# Altium footprint library AIRZAI_LED_SENSE_FLEX_REVA.PcbLib: 7 footprints
Each footprint in its own frame and in the unit in brackets; x right, y up, seen from the top. Pads: shape width x height; smd on the part's side, far side on the other; paste and mask are expansions set on the pad; w line width, h text height; cw(c..) or ccw(c..) is an arc to the next point about the centre after c.
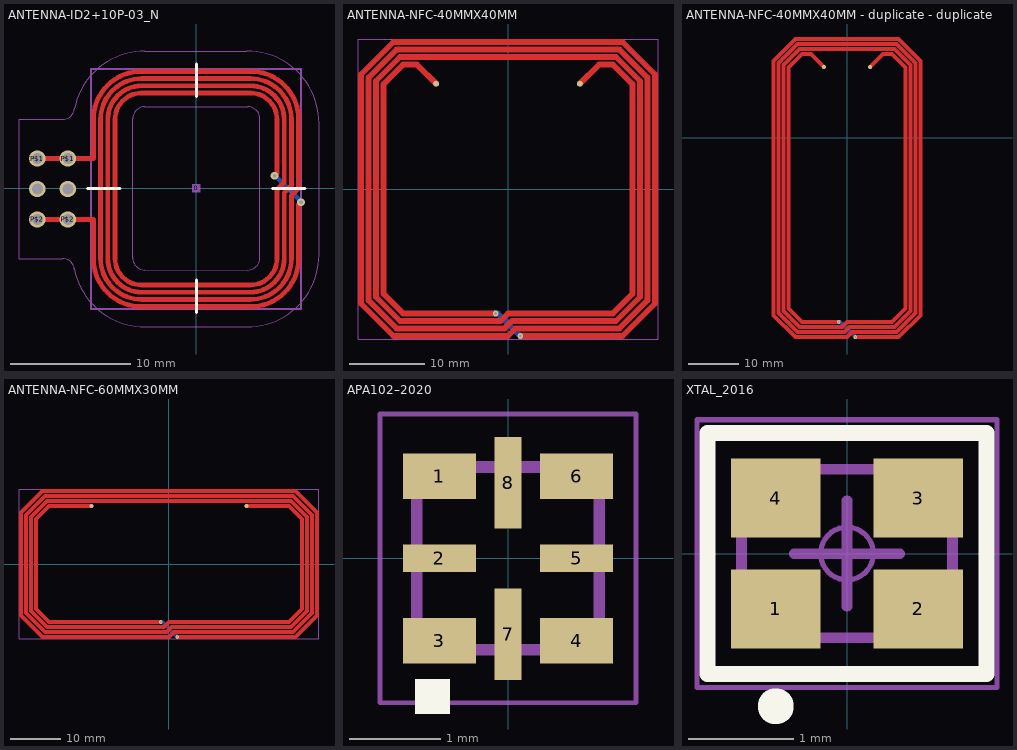
[diagram p0: the footprints below, top view; thin cyan lines are the x and y axes]

## ANTENNA-ID2+10P-03_N [mil] "ANTENNA-ID2+10P-01"
pads (7):
  rect 27.56x27.56 on Mech2: 0(0,0)
  round 54 hole 36: CON-B(-521.57,-1.97) CON-B1(-421.57,-1.97) P$1(-521.57,98.03) P$1(-421.57,98.03) P$2(-521.57,-101.97) P$2(-421.57,-101.97)
via 256.89,41.34 diameter 25.59 hole 11.81
via 343.5,-45.28 diameter 25.59 hole 11.81
Top Layer:
  lines w15.75: -521.57,-101.97 -337.6,-101.97 -337.6,-230.31 ccw(c-180.12,-230.31) -180.12,-387.8 178.15,-387.8 ccw(c178.15,-230.31) 335.63,-230.31 335.63,-53.15 344.49,-44.29 ; -521.57,98.03 -337.6,98.03 -337.6,226.38 cw(c-180.12,226.38) -180.12,383.86 178.15,383.86 cw(c178.15,226.38) 335.63,226.38 335.63,0 312.01,-23.62 312.01,-230.31 cw(c178.15,-230.31) 178.15,-364.17 -180.12,-364.17 cw(c-180.12,-230.31) -313.98,-230.31 -313.98,-1.97 -313.98,226.38 cw(c-180.12,226.38) -180.12,360.24 178.15,360.24 cw(c178.15,226.38) 312.01,226.38 312.01,9.84 288.39,-13.78 288.39,-230.31 cw(c178.15,-230.31) 178.15,-340.55 -180.12,-340.55 cw(c-180.12,-230.31) -290.35,-230.31 -290.35,-13.78 -290.35,226.38 cw(c-180.12,226.38) -180.12,336.61 178.15,336.61 cw(c178.15,226.38) 288.39,226.38 288.39,19.68 264.76,-3.94 264.76,-230.31 cw(c178.15,-230.31) 178.15,-316.93 -180.12,-316.93 cw(c-180.12,-230.31) -266.73,-230.31 -266.73,-13.78 -266.73,226.38 cw(c-180.12,226.38) -180.12,312.99 178.15,312.99 cw(c178.15,226.38) 264.76,226.38 264.76,49.21 256.89,41.34
Bottom Layer:
  lines w15.75: 256.89,43.31 344.49,-44.29
Top Overlay:
  lines w10: -356.3,0 -250,0 ; 0,-407.48 0,-301.18 ; 250,0 356.3,0 ; 0,301.18 0,407.48 0,301.18
Bottom Overlay:
  lines w10: -356.3,0 -250,0 ; 0,-407.48 0,-301.18 ; 250,0 356.3,0 ; 0,301.18 0,407.48 0,301.18
Mechanical 1:
  lines w7.87: 308.07,-10.83 319.88,0.98 ; -345.47,-395.67 343.5,-395.67 343.5,391.73 -345.47,391.73 -345.47,-395.67
Mechanical 13:
  lines w3.15: -581.69,-230.31 -581.69,226.38
Mechanical 4:
  lines w3.15: -581.69,-230.31 -438.98,-230.31 cw(c-438.98,-269.69) -399.91,-264.83 ; -581.69,226.38 -438.98,226.38 ccw(c-438.98,265.75) -399.91,260.89 ; -400.12,-263.9 ccw(c-168.31,-218.5) -168.31,-454.72 166.34,-454.72 ccw(c166.34,-218.5) 402.56,-218.5 402.56,214.57 ccw(c166.34,214.57) 166.34,450.79 -168.31,450.79 ccw(c-168.31,214.57) -399.94,260.89 ; -208.66,-228.35 ccw(c-169.29,-228.35) -169.29,-267.72 169.29,-267.72 ccw(c169.29,-228.35) 208.66,-228.35 208.66,228.35 ccw(c169.29,228.35) 169.29,267.72 -169.29,267.72 ccw(c-169.29,228.35) -208.66,228.35 -208.66,-228.35
Mechanical 5:
  text "20x20 mm" at -461.61,153.54 h40
  text "ANTENNA" at -464.17,287.52 h40
  text "Wire 0.4mm Space 0.2mm" at -464.17,222.52 h40

## ANTENNA-NFC-40MMX40MM [mil] "ANTENNA-ID2+10P-01"
pads (4):
  round 31.5 smd: 1(-377.5,552.5) 2(377.5,552.5)
  round 30 hole 15: 1(-65,-653.54) 2(65,-771.65)
Top Layer:
  lines w31.5: -377.5,552.5 -478.54,653.54 -550,653.54 -653.54,550 -653.54,-550 -550,-653.54 -65,-653.54 ; 65,-771.65 601.26,-771.65 771.65,-601.26 771.65,601.26 601.26,771.65 -601.26,771.65 -771.65,601.26 -771.65,-601.26 -601.26,-771.65 0,-771.65 39.37,-732.28 584.17,-732.28 732.28,-584.17 732.28,584.17 584.17,732.28 -584.17,732.28 -732.28,584.17 -732.28,-584.17 -584.17,-732.28 -19.37,-732.28 20,-692.91 567.09,-692.91 692.91,-567.09 692.91,567.09 567.09,692.91 -567.09,692.91 -692.91,567.09 -692.91,-567.09 -567.09,-692.91 -39.37,-692.91 0,-653.54 550,-653.54 653.54,-550 653.54,550 550,653.54 478.54,653.54 377.5,552.5
Bottom Layer:
  lines w31.5: -65,-653.54 -53.11,-653.54 65,-771.65
Mechanical 1:
  lines w3.94: -787.4,-787.4 -787.4,787.4 787.4,787.4 787.4,-787.4 -787.4,-787.4

## ANTENNA-NFC-40MMX40MM - duplicate - duplicate [mil] "ANTENNA-ID2+10P-01"
pads (4):
  round 31.5 smd: 1(-180.65,552.5) 1(180.65,552.5)
  round 30 hole 15: 1(-65,-1440.95) 2(65,-1559.05)
Top Layer:
  lines w31.5: -180.65,552.5 -281.69,653.54 -353.15,653.54 -456.69,550 -456.69,-1337.4 -353.15,-1440.95 -65,-1440.95 ; 65,-1559.05 404.41,-1559.05 574.8,-1388.66 574.8,601.26 404.41,771.65 -404.41,771.65 -574.8,601.26 -574.8,-1388.66 -404.41,-1559.06 0,-1559.06 39.37,-1519.69 387.32,-1519.69 535.43,-1371.57 535.43,584.17 387.32,732.28 -387.32,732.28 -535.43,584.17 -535.43,-1371.57 -387.32,-1519.69 -19.37,-1519.69 20,-1480.32 370.24,-1480.32 496.06,-1354.49 496.06,567.09 370.24,692.91 -370.24,692.91 -496.06,567.09 -496.06,-1354.49 -370.24,-1480.32 -39.37,-1480.32 0,-1440.95 353.15,-1440.95 456.69,-1337.4 456.69,550 353.15,653.54 281.69,653.54 180.65,552.5
Bottom Layer:
  lines w31.5: -65,-1440.95 -53.11,-1440.95 65,-1559.05

## ANTENNA-NFC-60MMX30MM [mm] "ANTENNA-ID2+10P-01"
pads (2):
  round 0.8 smd paste-0.8: 1(-15.494,11.6) 2(15.494,11.6)
via -1.651,-11.6 diameter 0.762 hole 0.381
via 1.651,-14.6 diameter 0.762 hole 0.381
Top Layer:
  lines w0.8: -15.494,11.6 -23.97,11.6 -26.6,8.97 -26.6,-8.97 -23.97,-11.6 -1.651,-11.6 ; 1.651,-14.6 25.272,-14.6 29.6,-10.272 29.6,10.272 25.272,14.6 -25.272,14.6 -29.6,10.272 -29.6,-10.272 -25.272,-14.6 0,-14.6 1,-13.6 24.838,-13.6 28.6,-9.838 28.6,9.838 24.838,13.6 -24.838,13.6 -28.6,9.838 -28.6,-9.838 -24.838,-13.6 -0.492,-13.6 0.508,-12.6 24.404,-12.6 27.6,-9.404 27.6,9.404 24.404,12.6 -24.404,12.6 -27.6,9.404 -27.6,-9.404 -24.404,-12.6 -1,-12.6 0,-11.6 23.97,-11.6 26.6,-8.97 26.6,8.97 23.97,11.6 15.494,11.6
Bottom Layer:
  lines w0.8: -1.651,-11.6 -1.349,-11.6 1.651,-14.6
Mechanical 1:
  lines w0.1: -30,-15 -30,15 ; 30,-15 30,15
  lines w0.127: -30,-15 30,-15 ; -30,15 30,15

## APA102–2020 [mm]
pads (8):
  rect 0.8x0.5 smd: 1(-0.75,0.9) 3(-0.75,-0.9) 4(0.75,-0.9) 6(0.75,0.9)
  rect 0.8x0.3 smd: 2(-0.75,0) 5(0.75,0)
  rect 0.3x1 smd: 7(0,-0.83) 8(0,0.83)
Top Overlay:
  rectangle: -1.016,-1.702 -0.635,-1.321
Mechanical 13 (Mech13):
  lines w0.127: -1,-1 1,-1 1,1 -1,1 -1,-1
Mechanical 16:
  lines w0.05: -1.4,-1.58 1.4,-1.58 1.4,1.58 -1.4,1.58 -1.4,-1.58
3D body: height 0.94, standoff 0, extent -0.698,0.254 -0.317,0.762
3D body: height 0.94, standoff 0, extent -0.19,0.254 0.191,0.762
3D body: height 0.94, standoff 0, extent 0.318,0.254 0.699,0.762
3D body: height 0.91, standoff 0, extent -1,-1 1,1

## PCBComponent_1 [mm]

## XTAL_2016 [mm] "2.00mm x 1.60mm"
height 1
pads (4):
  rect 0.85x0.75 smd: 1(-0.675,-0.525) 2(0.675,-0.525) 3(0.675,0.525) 4(-0.675,0.525)
Top Overlay:
  circle w0.3: c-0.675,-1.448 r0.02
  lines w0.152: -1.321,-1.143 -1.321,1.143 1.321,1.143 1.321,-1.143 -1.321,-1.143
Mechanical 1:
  text ".Designator" at -0.508,-0.229 h0.51
Mechanical 13 (Mech13):
  lines w0.1: -1,-0.8 1,-0.8 ; -1,0.8 1,0.8
  lines w0.102: -1,-0.8 -1,0.8 ; 1,-0.8 1,0.8
Mechanical 15:
  circle w0.05: c0,0 r0.25
  lines w0.05: -1.422,-1.27 1.422,-1.27 1.422,0.686 1.422,1.27 -1.422,1.27 -1.422,-1.27
  lines w0.1: -0.5,0 0.5,0 ; 0,-0.5 0,0.5
3D body "User Library-XRCGB27M000F2P00R0.STEP": height 0.65, standoff 0, extent -1,-0.813 1,0.787